# Altium footprint library TVS_0402_1005.PcbLib: 1 footprints
Each footprint in its own frame and in the unit in brackets; x right, y up, seen from the top. Pads: shape width x height; smd on the part's side, far side on the other; paste and mask are expansions set on the pad; w line width, h text height; cw(c..) or ccw(c..) is an arc to the next point about the centre after c.
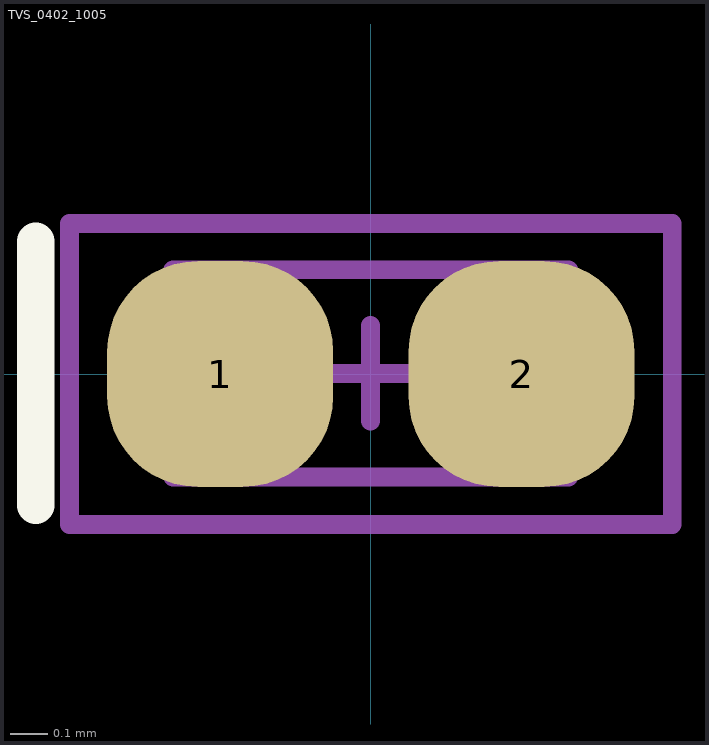
[diagram p0: the footprint, top view; thin cyan lines are the x and y axes]

## TVS_0402_1005 [mm]
pads (2):
  rrect80% 0.6x0.6 smd mask+0.05: 1(-0.4,0) 2(0.4,0)
Top Overlay:
  lines w0.1: -0.889,-0.348 -0.889,0.352
Top Assembly:
  lines w0.05: -0.525,-0.273 0.525,-0.273 0.525,0.277 -0.525,0.277 -0.525,-0.273
  lines w0.2: -0.4,-0.15 -0.4,0.15
Top Courtyard:
  lines w0.05: -0.8,-0.4 -0.8,0.4 0.8,0.4 0.8,-0.4 -0.8,-0.4
  lines w0.051: -0.127,0.002 0.127,0.002 ; 0,-0.125 0,0.129
3D body "User Library-res0402-1.step": height 0.3, standoff 0, extent -0.5,-0.25 0.5,0.25